# Altium footprint library AOS DPAK PMOS.PcbLib: 1 footprints
Each footprint in its own frame and in the unit in brackets; x right, y up, seen from the top. Pads: shape width x height; smd on the part's side, far side on the other; paste and mask are expansions set on the pad; w line width, h text height; cw(c..) or ccw(c..) is an arc to the next point about the centre after c.
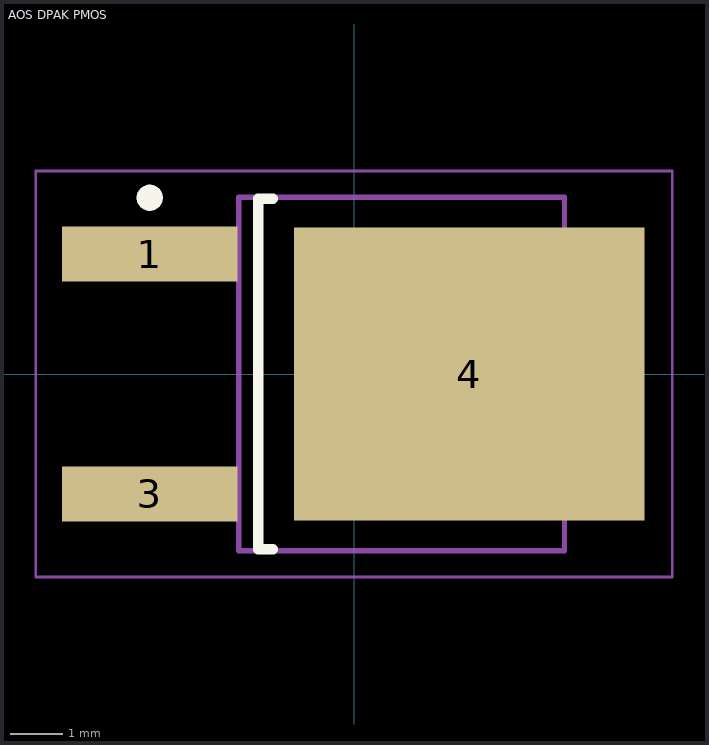
[diagram p0: the footprint, top view; thin cyan lines are the x and y axes]

## AOS DPAK PMOS [mm] "MFG: AOD407 Digikey: 785-1102-1-ND"
height 2.39
pads (3):
  rect 3.35x1.05 smd: 1(-3.9,2.29) 3(-3.9,-2.29)
  rect 6.7x5.6 smd: 4(2.2,0)
Top Overlay:
  circle w0.25: c-3.9,3.365 r0.125
  lines w0.2: -1.55,-3.35 -1.825,-3.35 -1.825,3.35 -1.55,3.35
Mechanical 13:
  lines w0.1: -2.2,-3.375 4.02,-3.375 4.02,3.375 -2.2,3.375 -2.2,-3.375
Mechanical 15:
  lines w0.05: -6.075,-3.875 6.075,-3.875 6.075,3.875 -6.075,3.875 -6.075,-3.875
  lines w0.1: -0.5,0 0.5,0 ; 0,-0.5 0,0.5
3D body "AOS DPAK PMOS 10A.step": height 2.39, standoff 0, extent -4.201,-3.375 5.514,3.375